# Altium schematic symbol library MYC-T507H.SchLib: 1 symbol
Pins are listed as number, name and electrical type; pins without a type are passive.

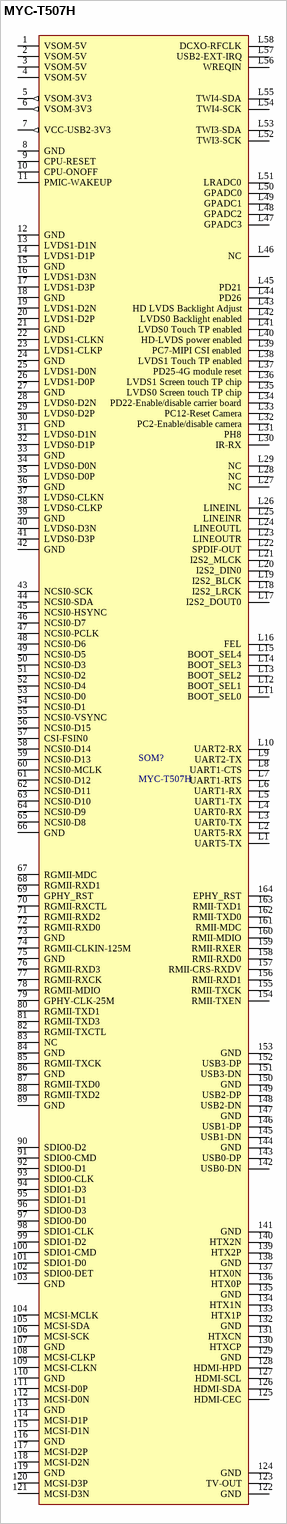
[diagram p0: symbol MYC-T507H]

## MYC-T507H
designator SOM?
footprint MYC-TY507K
pins: 1 VSOM-5V (power), 2 VSOM-5V (power), 3 VSOM-5V (power), 4 VSOM-5V (power), 5 VSOM-3V3 (out), 6 VSOM-3V3 (out), 7 VCC-USB2-3V3 (out), 8 GND (power), 9 CPU-RESET (power), 10 CPU-ONOFF (power), 11 PMIC-WAKEUP (power), 12 GND (power), 13 LVDS1-D1N (power), 14 LVDS1-D1P (power), 15 GND (power), 16 LVDS1-D3N (power), 17 LVDS1-D3P (power), 18 GND (power), 19 LVDS1-D2N (power), 20 LVDS1-D2P (power), 21 GND (power), 22 LVDS1-CLKN (power), 23 LVDS1-CLKP (power), 24 GND (power), 25 LVDS1-D0N (power), 26 LVDS1-D0P (power), 27 GND (power), 28 LVDS0-D2N (power), 29 LVDS0-D2P (power), 30 GND (power), 31 LVDS0-D1N (power), 32 LVDS0-D1P (power), 33 GND (power), 34 LVDS0-D0N (power), 35 LVDS0-D0P (power), 36 GND (power), 37 LVDS0-CLKN (power), 38 LVDS0-CLKP (power), 39 GND (power), 40 LVDS0-D3N (power), 41 LVDS0-D3P (power), 42 GND (power), 43 NCSI0-SCK (power), 44 NCSI0-SDA (power), 45 NCSI0-HSYNC (power), 46 NCSI0-D7 (power), 47 NCSI0-PCLK (power), 48 NCSI0-D6 (power), 49 NCSI0-D5 (power), 50 NCSI0-D3 (power), 51 NCSI0-D2 (power), 52 NCSI0-D4 (power), 53 NCSI0-D0 (power), 54 NCSI0-D1 (power), 55 NCSI0-VSYNC (power), 56 NCSI0-D15 (power), 57 CSI-FSIN0 (power), 58 NCSI0-D14 (power), 59 NCSI0-D13 (power), 60 NCSI0-MCLK (power), 61 NCSI0-D12 (power), 62 NCSI0-D11 (power), 63 NCSI0-D10 (power), 64 NCSI0-D9 (power), 65 NCSI0-D8 (power), 66 GND (power), 67 RGMII-MDC (power), 68 RGMII-RXD1 (power), 69 GPHY_RST (power), 70 RGMII-RXCTL (power), 71 RGMII-RXD2 (power), 72 RGMII-RXD0  (power), 73 GND (power), 74 RGMII-CLKIN-125M (power), 75 GND (power), 76 RGMII-RXD3 (power), 77 RGMII-RXCK (power), 78 RGMII-MDIO (power), 79 GPHY-CLK-25M (power), 80 RGMII-TXD1 (power), 81 RGMII-TXD3 (power), 82 RGMII-TXCTL (power), 83 NC, 84 GND (power), 85 RGMII-TXCK (power), 86 GND (power), 87 RGMII-TXD0 (power), 88 RGMII-TXD2 (power), 89 GND (power), 90 SDIO0-D2 (power), 91 SDIO0-CMD (power), 92 SDIO0-D1 (power), 93 SDIO0-CLK (power), 94 SDIO1-D3 (power), 95 SDIO1-D1 (power), 96 SDIO0-D3 (power), 97 SDIO0-D0 (power), 98 SDIO1-CLK (power), 99 SDIO1-D2 (power), 100 SDIO1-CMD (power), 101 SDIO1-D0 (power), 102 SDIO0-DET (power), 103 GND (power), 104 MCSI-MCLK (power), 105 MCSI-SDA (power), 106 MCSI-SCK (power), 107 GND (power), 108 MCSI-CLKP (power), 109 MCSI-CLKN  (power), 110 GND (power), 111 MCSI-D0P (power), 112 MCSI-D0N (power), 114 MCSI-D1P (power), 115 MCSI-D1N (power), 116 GND (power), 117 MCSI-D2P (power), 118 MCSI-D2N (power), 119 GND (power), 120 MCSI-D3P (power), 121 MCSI-D3N (power), 122 GND (power), 123 TV-OUT (power), 124 GND (power), 125 HDMI-CEC (power), 126 HDMI-SDA (power), 127 HDMI-SCL (power), 128 HDMI-HPD (power), 129 GND (power), 130 HTXCP (power), 131 HTXCN (power), 132 GND (power), 133 HTX1P (power), 134 HTX1N (power), 135 GND (power), 136 HTX0P (power), 137 HTX0N (power), 138 GND (power), 139 HTX2P (power), 140 HTX2N (power), 141 GND (power), 142 USB0-DN (power), 143 USB0-DP (power), 144 GND (power), 145 USB1-DN (power), 146 USB1-DP (power), 147 GND (power), 148 USB2-DN (power), 149 USB2-DP (power), 150 GND (power), 151 USB3-DN (power), 152 USB3-DP (power), 153 GND (power), 154 RMII-TXEN (power), 155 RMII-TXCK (power), 156 RMII-RXD1 (power), 157 RMII-CRS-RXDV (power), 158 RMII-RXD0 (power), 159 RMII-RXER (power), 160 RMII-MDIO (power), 161 RMII-MDC (power), 162 RMII-TXD0 (power), 163 RMII-TXD1 (power), 164 EPHY_RST (power),  113 GND (power), L1 UART5-TX (power), L2 UART5-RX (power), L3 UART0-TX (power), L4 UART0-RX (power), L5 UART1-TX (power), L6 UART1-RX (power), L7 UART1-RTS (power), L8 UART1-CTS (power), L9 UART2-TX (power), L10 UART2-RX (power), L11 BOOT_SEL0 (power), L12 BOOT_SEL1 (power), L13 BOOT_SEL2 (power), L14 BOOT_SEL3 (power), L15 BOOT_SEL4 (power), L16 FEL (power), L17 I2S2_DOUT0 (power), L18 I2S2_LRCK (power), L19 I2S2_BLCK (power), L20 I2S2_DIN0 (power), L21 I2S2_MLCK (power), L22 SPDIF-OUT (power), L23 LINEOUTR (power), L24 LINEOUTL (power), L25 LINEINR (power), L26 LINEINL (power), L27 NC, L28 NC, L29 NC, L30 IR-RX (power), L31 PH8 (power), L32 PC2-Enable/disable camera (power), L33 PC12-Reset Camera (power), L34 PD22-Enable/disable carrier board (power), L35 LVDS0 Screen touch TP chip (power), L36 LVDS1 Screen touch TP chip (power), L37 PD25-4G module reset (power), L38 LVDS1 Touch TP enabled (power), L39 PC7-MIPI CSI enabled (power), L40 HD-LVDS power enabled (power), L41 LVDS0 Touch TP enabled (power), L42 LVDS0 Backlight enabled (power), L43 HD LVDS Backlight Adjust (power), L44 PD26 (power), L45 PD21 (power), L46 NC, L47 GPADC3 (power), L48 GPADC2 (power), L49 GPADC1 (power), L50 GPADC0 (power), L51 LRADC0 (power), L52 TWI3-SCK (power), L53 TWI3-SDA (power), L54 TWI4-SCK (power), L55 TWI4-SDA (power), L56 WREQIN (power), L57 USB2-EXT-IRQ (power), L58 DCXO-RFCLK (power)